# EAGLE library part L1MC-RGB0028000MP0 (library L1MC-RGB0028000MP0)
LED Lighting Color LUXEON 3528 RGB Red, Green, Blue (RGB) 622nm Red, 525nm Green, 470nm Blue 6-PLCC Source: Datasheet <https://lumileds.com/wp-content/uploads/2022/03/DS388-luxeon-3528-rgb-datasheet.pdf>
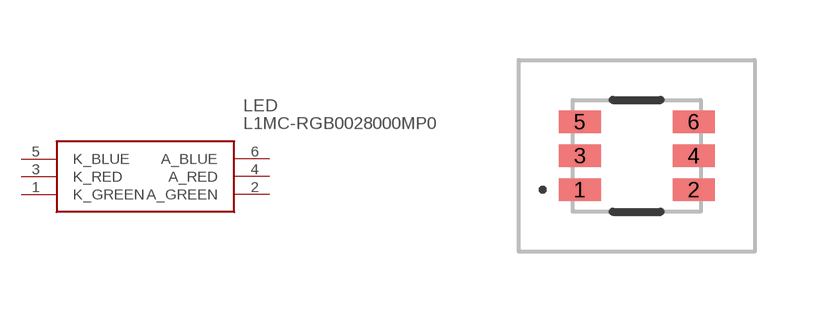
[diagram p0: symbol with the pads of L1MCRGB0028000MP0; footprint L1MCRGB0028000MP0]

Designator prefix LED

## L1MC-RGB0028000MP0 (Description: LED Lighting Color LUXEON 3528 RGB Red, Green, Blue (RGB) 622nm Red, 525nm Green, 470nm Blue 6-PLCC; Height: 1.85mm; Manufacturer_Name: Lumileds; Manufacturer_Part_Number: L1MC-RGB0028000MP0; Mouser_Part_Number: 997-L1MCRGB00280MP; Mouser_Price-Stock: https://www.mouser.co.uk/ProductDetail/Lumileds/L1MC-RGB0028000MP0?qs=Znm5pLBrcAJSGF05jr80lQ%3D%3D)  [L1MCRGB0028000MP0]
1  K_GREEN
2  A_GREEN
3  K_RED
4  A_RED
5  K_BLUE
6  A_BLUE

## Footprint L1MCRGB0028000MP0 (pad centres in mm)
6-PLCC
smd 1.05 x 0.56: 1 -1.425,-0.85; 2 1.425,-0.85; 3 -1.425,0; 4 1.425,0; 5 -1.425,0.85; 6 1.425,0.85